# EAGLE library part XFMR_48VA_FLAT (library wheat)
Xfmr, 48VA flat
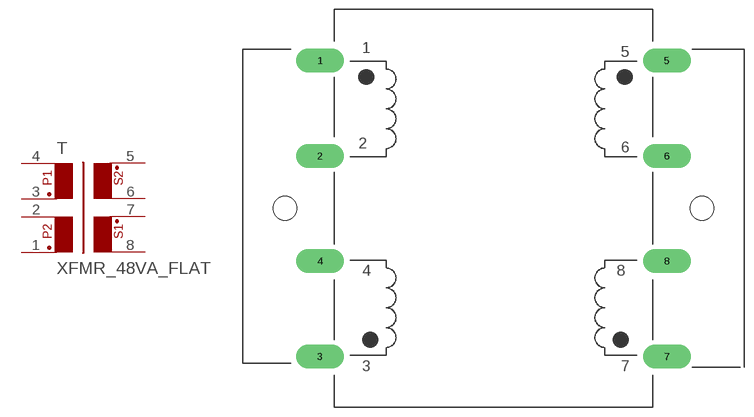
[diagram p133: symbol with the pads of XFMR_FLAT_48VA; footprint XFMR_FLAT_48VA]

Designator prefix T

## XFMR_48VA_FLAT  [XFMR_FLAT_48VA]
1  1  pas
2  2  pas
3  3  pas
4  4  pas
5  5  pas
6  6  pas
7  7  pas
8  8  pas

## Footprint XFMR_FLAT_48VA (pad centres in mm)
Xfmr, 48VA flat
drill 1.778 pad 3.81 long: 1 -27.686,23.622; 2 -27.686,8.382; 3 -27.686,-23.622; 4 -27.686,-8.382; 5 27.686,23.622; 6 27.686,8.382; 7 27.686,-23.622; 8 27.686,-8.382
hole 3.81 at -33.274,0
hole 3.81 at 33.274,0